# EAGLE library part STC8H8K64U_45I_TSSOP_20_KXN (library kxn_Standard_MCU)
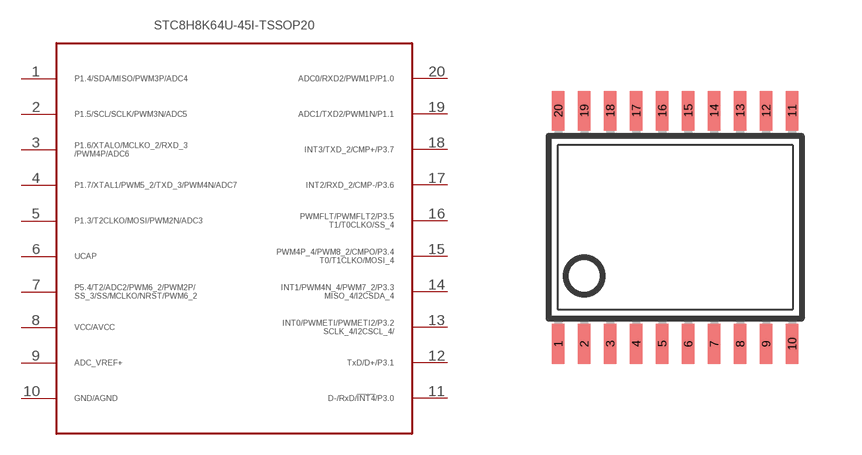
[diagram p10: symbol with the pads of TSSOP20; footprint TSSOP20]

Designator prefix -

## STC8H8K64U_45I_TSSOP_20_KXN_1  [TSSOP20]
1  P$1_P1.4
2  P$2_P1.5
3  P$3_P1.6
4  P$4_P1.7
5  P$5_P1.3
6  P$6_UCAP
7  P$7_P5.4
8  P$8_VCC/AVCC
9  P$9_ADC_VREF+
10  P$10_GND/AGND
11  P$11_P3.0
12  P$12_P3.1
13  P$13_P3.2
14  P$14_P3.3
15  P$15_P3.4
16  P$16_P3.5
17  P$17_P3.6
18  P$18_P3.7
19  P$19_P1.1
20  P$20_P1.0

## Footprint TSSOP20 (pad centres in mm)
Thin Shrink Small Outline Plastic 20 MAX3223-MAX3243.pdf
smd 0.305 x 0.991: 1 -2.925,-2.918; 2 -2.275,-2.918; 3 -1.625,-2.918; 4 -0.975,-2.918; 5 -0.325,-2.918; 6 0.325,-2.918; 7 0.975,-2.918; 8 1.625,-2.918; 9 2.275,-2.918; 10 2.925,-2.918; 11 2.925,2.918; 12 2.275,2.918; 13 1.625,2.918; 14 0.975,2.918; 15 0.325,2.918; 16 -0.325,2.918; 17 -0.975,2.918; 18 -1.625,2.918; 19 -2.275,2.918; 20 -2.925,2.918